# EAGLE library part CYPRESS-CY7C1019CV33 (library Pygmy)
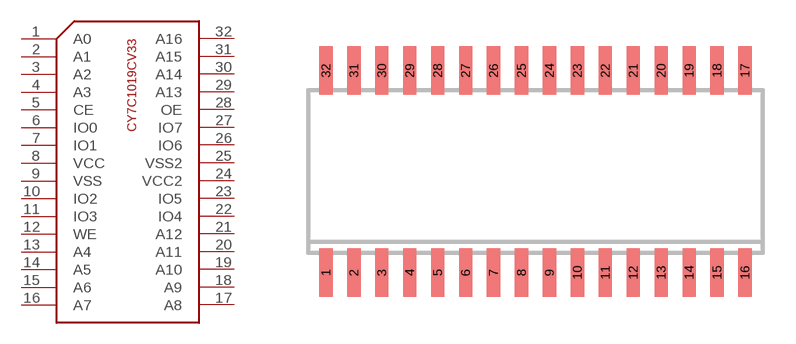
[diagram p4: symbol with the pads of SOP32W; footprint SOP32W]

Designator prefix -

## CYPRESS-CY7C1019CV33  [SOP32W]
1  A0
2  A1
3  A2
4  A3
5  CE
6  IO0
7  IO1
8  VCC
9  VSS
10  IO2
11  IO3
12  WE
13  A4
14  A5
15  A6
16  A7
17  A8
18  A9
19  A10
20  A11
21  A12
22  IO4
23  IO5
24  VCC2
25  VSS2
26  IO6
27  IO7
28  OE
29  A13
30  A14
31  A15
32  A16

## Footprint SOP32W (pad centres in mm)
Small Outline Package widt
smd 0.6 x 2.2: 1 -9.525,-4.6; 2 -8.255,-4.6; 3 -6.985,-4.6; 4 -5.715,-4.6; 5 -4.445,-4.6; 6 -3.175,-4.6; 7 -1.905,-4.6; 8 -0.635,-4.6; 9 0.635,-4.6; 10 1.905,-4.6; 11 3.175,-4.6; 12 4.445,-4.6; 13 5.715,-4.6; 14 6.985,-4.6; 15 8.255,-4.6; 16 9.525,-4.6; 17 9.525,4.6; 18 8.255,4.6; 19 6.985,4.6; 20 5.715,4.6; 21 4.445,4.6; 22 3.175,4.6; 23 1.905,4.6; 24 0.635,4.6; 25 -0.635,4.6; 26 -1.905,4.6; 27 -3.175,4.6; 28 -4.445,4.6; 29 -5.715,4.6; 30 -6.985,4.6; 31 -8.255,4.6; 32 -9.525,4.6